# Altium schematic symbol library sign_lib.SchLib: 5 symbols
Pins are listed as number, name and electrical type; pins without a type are passive.

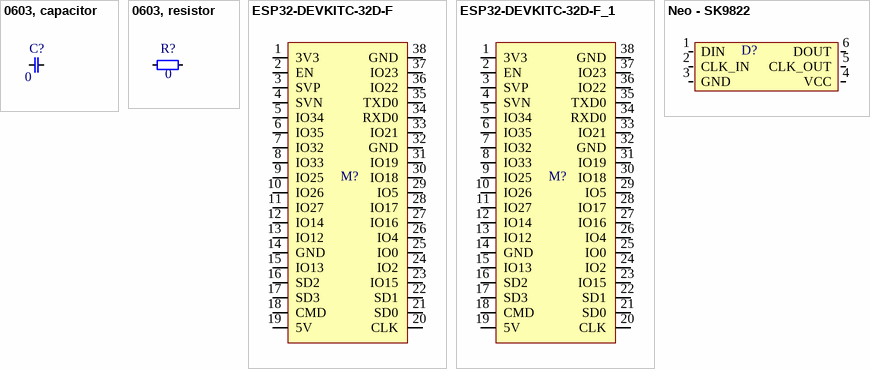
[diagram p0: symbols 0603, capacitor to Neo - SK9822]

## 0603, capacitor
designator C?  value 0  (hidden comment: *)
Order number: *
footprint 0603 cap
footprint 0402 CAP
pins: 0, 1

## 0603, resistor
designator R?  value 0
footprint 0603
footprint 0402 res
pins: 0, 1

## ESP32-DEVKITC-32D-F
designator M?  (value not drawn)
footprint ESP32_DEVKITC
pins: 1 3V3, 2 EN, 3 SVP, 4 SVN, 5 IO34, 6 IO35, 7 IO32, 8 IO33, 9 IO25, 10 IO26, 11 IO27, 12 IO14, 13 IO12, 14 GND, 15 IO13, 16 SD2, 17 SD3, 18 CMD, 19 5V, 20 CLK, 21 SD0, 22 SD1, 23 IO15, 24 IO2, 25 IO0, 26 IO4, 27 IO16, 28 IO17, 29 IO5, 30 IO18, 31 IO19, 32 GND, 33 IO21, 34 RXD0, 35 TXD0, 36 IO22, 37 IO23, 38 GND

## ESP32-DEVKITC-32D-F_1
designator M?  (value not drawn)
footprint ESP32_DEVKITC
pins: 1 3V3, 2 EN, 3 SVP, 4 SVN, 5 IO34, 6 IO35, 7 IO32, 8 IO33, 9 IO25, 10 IO26, 11 IO27, 12 IO14, 13 IO12, 14 GND, 15 IO13, 16 SD2, 17 SD3, 18 CMD, 19 5V, 20 CLK, 21 SD0, 22 SD1, 23 IO15, 24 IO2, 25 IO0, 26 IO4, 27 IO16, 28 IO17, 29 IO5, 30 IO18, 31 IO19, 32 GND, 33 IO21, 34 RXD0, 35 TXD0, 36 IO22, 37 IO23, 38 GND

## Neo - SK9822
designator D?  (value not drawn)
Value: WS2812; DigiKey: 1568-1800-ND
footprint SK9822_FLIPPED
footprint SK9822
pins: 1 DIN, 2 CLK_IN, 3 GND, 4 VCC, 5 CLK_OUT, 6 DOUT